# EAGLE library part RB1-125BAG1A (library vtgs)
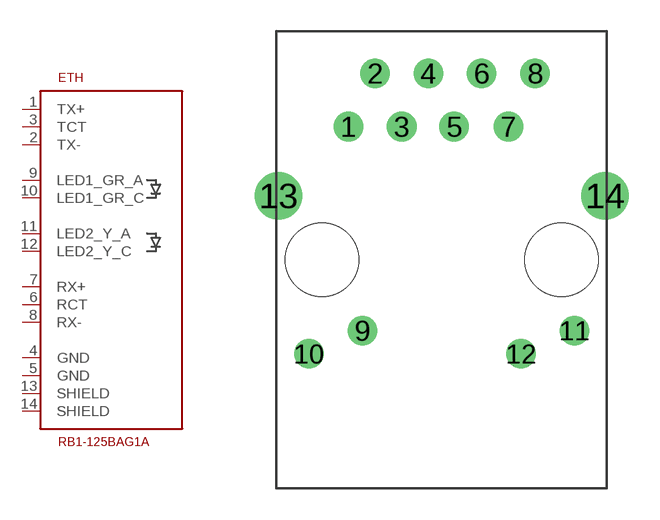
[diagram p5: symbol with the pads of RB1-125BAG1A; footprint RB1-125BAG1A]

Designator prefix ETH

## RB1-125BAG1A  [RB1-125BAG1A]
1  TX+
2  TX-
3  TCT
4  GND
5  GND
6  RCT
7  RX+
8  RX-
9  LED1_GR_A
10  LED1_GR_C
11  LED2_Y_A
12  LED2_Y_C
13  SHIELD
14  SHIELD

## Footprint RB1-125BAG1A (pad centres in mm)
drill 0.9: 1 -4.445,6.35; 2 -3.175,8.89; 3 -1.905,6.35; 4 -0.635,8.89; 5 0.595,6.35; 6 1.905,8.89; 7 3.175,6.35; 8 4.45,8.89; 9 -3.785,-3.38; 10 -6.325,-4.49; 11 6.325,-3.38; 12 3.785,-4.49
drill 1.5: 13 -7.775,3.05; 14 7.775,3.05
hole 3.5 at -5.715,0
hole 3.5 at 5.715,0